# EAGLE library part MAX11638 (library ERIC)
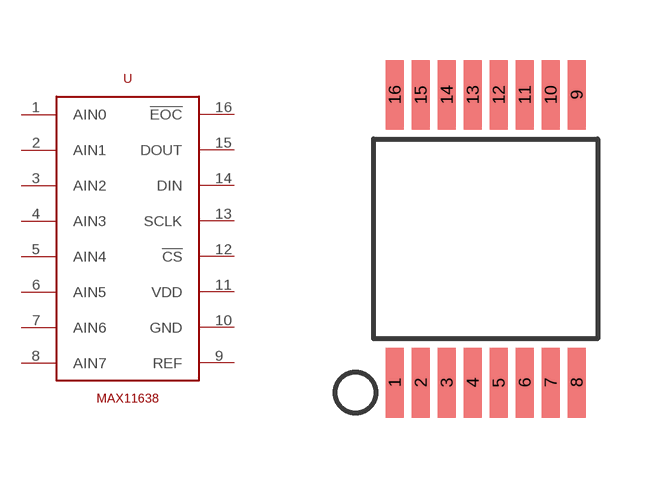
[diagram p22: symbol with the pads of SSOP-16; footprint SSOP-16]

Designator prefix -

## MAX11638  [SSOP-16]
1  AIN0
2  AIN1
3  AIN2
4  AIN3
5  AIN4
6  AIN5
7  AIN6
8  AIN7
9  REF
10  GND  pwr
11  VDD  pwr
12  !CS
13  SCLK
14  DIN
15  DOUT
16  !EOC

## Footprint SSOP-16 (pad centres in mm)
16 lead SSOP package
smd 0.45 x 1.75: 1 -2.275,-3.6; 2 -1.625,-3.6; 3 -0.975,-3.6; 4 -0.325,-3.6; 5 0.325,-3.6; 6 0.975,-3.6; 7 1.625,-3.6; 8 2.275,-3.6; 9 2.275,3.6; 10 1.625,3.6; 11 0.975,3.6; 12 0.325,3.6; 13 -0.325,3.6; 14 -0.975,3.6; 15 -1.625,3.6; 16 -2.275,3.6